# Altium footprint library OLED12864I2C.PcbLib: 1 footprints
Each footprint in its own frame and in the unit in brackets; x right, y up, seen from the top. Pads: shape width x height; smd on the part's side, far side on the other; paste and mask are expansions set on the pad; w line width, h text height; cw(c..) or ccw(c..) is an arc to the next point about the centre after c.
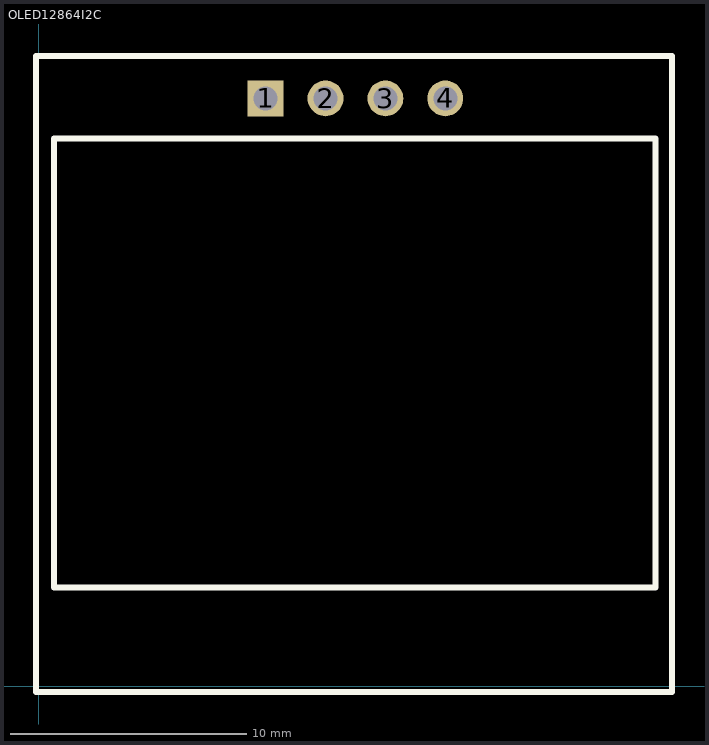
[diagram p0: the footprint, top view; thin cyan lines are the x and y axes]

## OLED12864I2C [mil]
pads (4):
  rect 60x60 hole 40: 1(378.98,981.9)
  round 60 hole 40: 2(478.98,981.9) 3(578.98,981.9) 4(678.98,981.9)
Top Overlay:
  lines w10: -5,-10 1057.99,-10 1057.99,1052.99 -5,1052.99 -5,-10 ; 25,165 25,915 1030,915 1030,165 25,165